# EAGLE library part NRF52832 (library IC_Wireless-RF)
Bluetooth - Transceiver Datasheet <https://infocenter.nordicsemi.com/pdf/nRF52832_PS_v1.4.pdf>
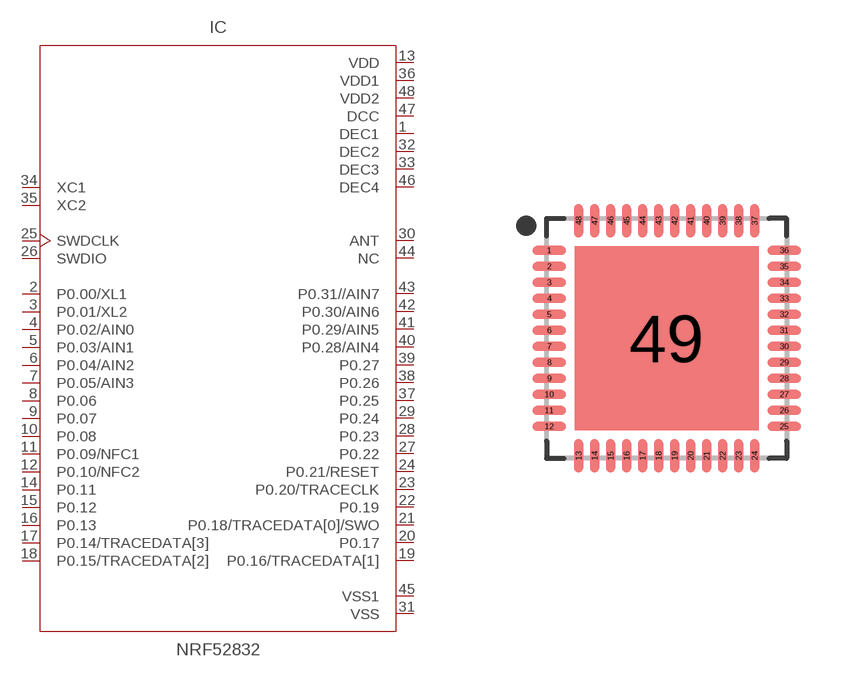
[diagram p23: symbol with the pads of QFN40P600X600X100-49T460; footprint QFN40P600X600X100-49T460]

Designator prefix IC

## NRF52832_QFN48 (CATEGORY: RF_Wireless; MANUFACTURER: NORDIC Semiconductor; MPN: nRF52832; OPERATING_TEMP: -40 to +85 °C; PART_STATUS: Active; ROHS_COMPLIANT: Compliant; SUB-CATEGORY: Transceiver; VALUE: NRF52832)  [QFN40P600X600X100-49T460]
1  DEC1  pwr
2  P0.00/XL1
3  P0.01/XL2
4  P0.02/AIN0
5  P0.03/AIN1
6  P0.04/AIN2
7  P0.05/AIN3
8  P0.06
9  P0.07
10  P0.08
11  P0.09/NFC1
12  P0.10/NFC2
13  VDD  pwr
14  P0.11
15  P0.12
16  P0.13
17  P0.14/TRACEDATA[3]
18  P0.15/TRACEDATA[2]
19  P0.16/TRACEDATA[1]
20  P0.17
21  P0.18/TRACEDATA[0]/SWO
22  P0.19
23  P0.20/TRACECLK
24  P0.21/RESET
25  SWDCLK  in
26  SWDIO
27  P0.22
28  P0.23
29  P0.24
30  ANT
31  VSS  pwr
32  DEC2  pwr
33  DEC3  pwr
34  XC1  in
35  XC2  in
36  VDD1  pwr
37  P0.25
38  P0.26
39  P0.27
40  P0.28/AIN4
41  P0.29/AIN5
42  P0.30/AIN6
43  P0.31//AIN7
44  NC  nc
45  VSS1  pwr
46  DEC4  pwr
47  DCC  pwr
48  VDD2  pwr

## Footprint QFN40P600X600X100-49T460 (pad centres in mm)
48-QFN, 0.40 mm pitch, 6.00 X 6.00 X 1.00 mm body, 4.60 X 4.60 mm thermal pad 48-pin QFN package with 0.40 mm pitch with body size 6.00 X 6.00 X 1.00 mm and thermal pad size 4.60 X 4.60 mm
smd 0.837 x 0.22: 1 -2.937,2.2; 2 -2.937,1.8; 3 -2.937,1.4; 4 -2.937,1; 5 -2.937,0.6; 6 -2.937,0.2; 7 -2.937,-0.2; 8 -2.937,-0.6; 9 -2.937,-1; 10 -2.937,-1.4; 11 -2.937,-1.8; 12 -2.937,-2.2; 25 2.937,-2.2; 26 2.937,-1.8; 27 2.937,-1.4; 28 2.937,-1; 29 2.937,-0.6; 30 2.937,-0.2; 31 2.937,0.2; 32 2.937,0.6; 33 2.937,1; 34 2.937,1.4; 35 2.937,1.8; 36 2.937,2.2
smd 0.22 x 0.837: 13 -2.2,-2.937; 14 -1.8,-2.937; 15 -1.4,-2.937; 16 -1,-2.937; 17 -0.6,-2.937; 18 -0.2,-2.937; 19 0.2,-2.937; 20 0.6,-2.937; 21 1,-2.937; 22 1.4,-2.937; 23 1.8,-2.937; 24 2.2,-2.937; 37 2.2,2.937; 38 1.8,2.937; 39 1.4,2.937; 40 1,2.937; 41 0.6,2.937; 42 0.2,2.937; 43 -0.2,2.937; 44 -0.6,2.937; 45 -1,2.937; 46 -1.4,2.937; 47 -1.8,2.937; 48 -2.2,2.937
smd 4.6 x 4.6: 49 0,0